# EAGLE library part BMI160 (library bmi160_breakout)
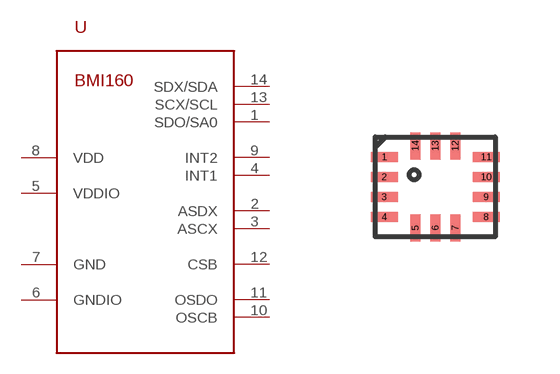
[diagram p0: symbol with the pads of LGA14; footprint LGA14]

Designator prefix -

## BMI160LGA14  [LGA14]
1  SDO/SA0
2  ASDX
3  ASCX
4  INT1
5  VDDIO
6  GNDIO
7  GND
8  VDD
9  INT2
10  OSCB
11  OSDO
12  CSB
13  SCX/SCL
14  SDX/SDA

## Footprint LGA14 (pad centres in mm)
smd 0.675 x 0.25: 1 -1.275,0.75; 2 -1.275,0.25; 3 -1.275,-0.25; 4 -1.275,-0.75; 8 1.275,-0.75; 9 1.275,-0.25; 10 1.275,0.25; 11 1.275,0.75
smd 0.25 x 0.675: 5 -0.5,-1.025; 6 0,-1.025; 7 0.5,-1.025; 12 0.5,1.025; 13 0,1.025; 14 -0.5,1.025